# Altium footprint library 2N7002.PcbLib: 2 footprints
Each footprint in its own frame and in the unit in brackets; x right, y up, seen from the top. Pads: shape width x height; smd on the part's side, far side on the other; paste and mask are expansions set on the pad; w line width, h text height; cw(c..) or ccw(c..) is an arc to the next point about the centre after c.
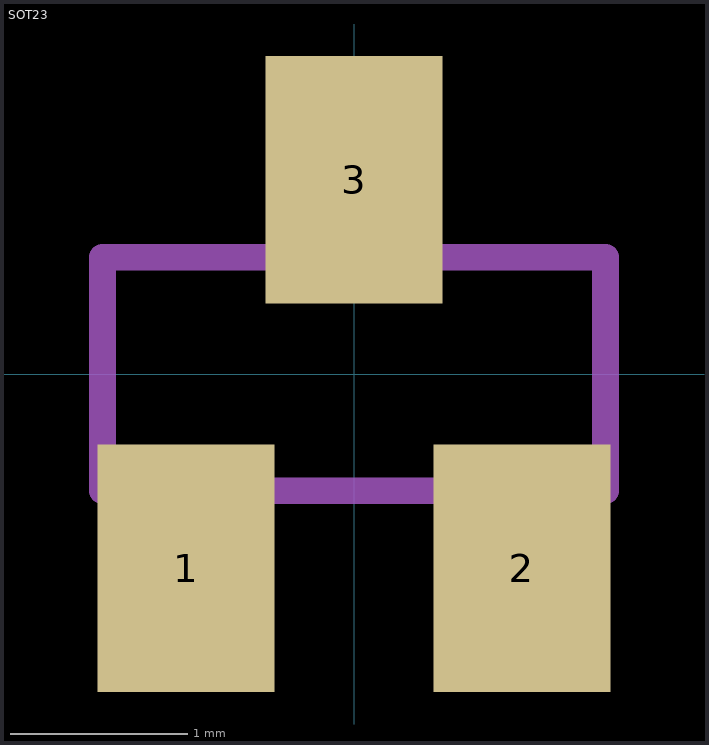
[diagram p0: the footprints below, top view; thin cyan lines are the x and y axes]

## PCBComponent_1 [mm]

## SOT23 [mm]
pads (3):
  rect 1x1.4 smd: 1(-0.95,-1.1) 2(0.95,-1.1) 3(0,1.1)
Mechanical 1:
  region: -1.17,-0.711 -0.711,-0.711 -0.711,-1.297 -1.17,-1.297
  region: 0.713,-0.711 1.168,-0.711 1.168,-1.299 0.713,-1.299
  region: -0.229,1.295 0.229,1.295 0.229,0.713 -0.229,0.713
  lines w0.152: -1.422,-0.66 -1.422,0.66 1.422,0.66 1.422,-0.66 -1.422,-0.66